# EAGLE library part LM4871M (library ds_ic_peripherals)
3-W, mono, analog input Class-AB audio amplifier
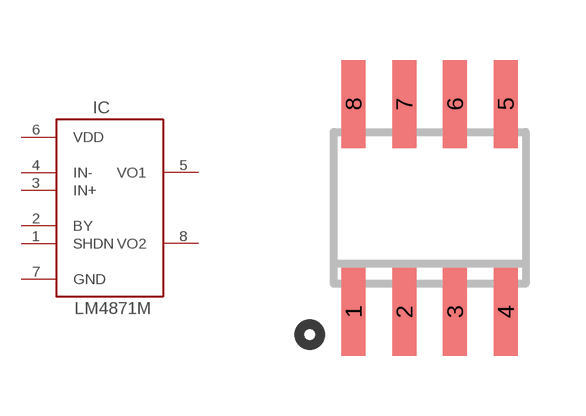
[diagram p4: symbol with the pads of SO8; footprint SO8]

Designator prefix IC

## LM4871M  [SO8]
1  SHDN
2  BY
3  IN+
4  IN-
5  VO1
6  VDD
7  GND
8  VO2

## Footprint SO8 (pad centres in mm)
SMALL OUTLINE INTEGRATED CIRCUIT
smd 0.6 x 2.2: 1 -1.905,-2.6; 2 -0.635,-2.6; 3 0.635,-2.6; 4 1.905,-2.6; 5 1.905,2.6; 6 0.635,2.6; 7 -0.635,2.6; 8 -1.905,2.6